# EAGLE library part FDBL86210-F085 (library FDBL86210-F085)
MOSFET N-Ch 150V 169A PowerTrench PSOF8 Source: Datasheet <https://www.onsemi.com/pub/Collateral/FDBL86210_F085-D.PDF>
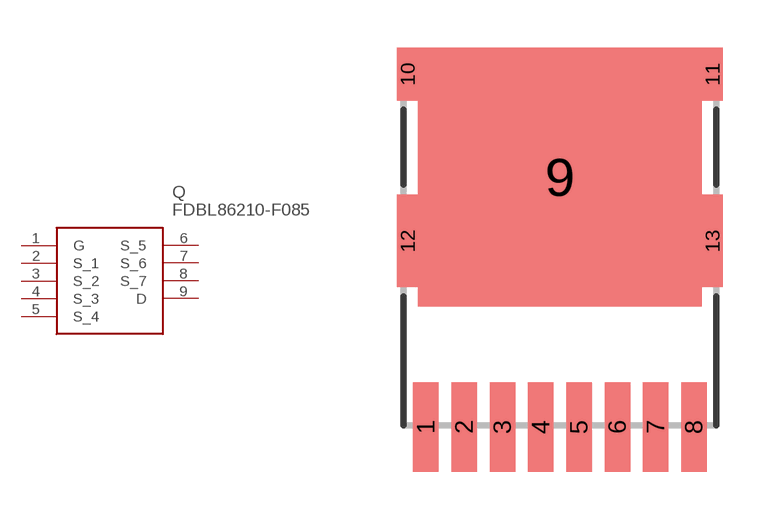
[diagram p0: symbol with the pads of H-PSOF8L-11.68X9.80_1; footprint H-PSOF8L-11.68X9.80_1]

Designator prefix Q

## FDBL86210-F085 (Arrow_Part_Number: FDBL86210-F085; Arrow_Price-Stock: https://www.arrow.com/en/products/fdbl86210-f085/on-semiconductor?region=nac; Description: MOSFET N-Ch 150V 169A PowerTrench PSOF8; Height: mm; Manufacturer_Name: onsemi; Manufacturer_Part_Number: FDBL86210-F085; Mouser_Part_Number: 512-FDBL86210_F085; Mouser_Price-Stock: https://www.mouser.co.uk/ProductDetail/onsemi-Fairchild/FDBL86210-F085?qs=0lQeLiL1qybvN4JdfMs10g%3D%3D)  [H-PSOF8L-11.68X9.80_1]
1  G
2  S_1
3  S_2
4  S_3
5  S_4
6  S_5
7  S_6
8  S_7
9  D

## Footprint H-PSOF8L-11.68X9.80_1 (pad centres in mm)
H−PSOF8L 11.68x9.80 CASE 100CU ISSUE O
smd 0.8 x 2.8: 1 -4.2,-5.24; 2 -3,-5.24; 3 -1.8,-5.24; 4 -0.6,-5.24; 5 0.6,-5.24; 6 1.8,-5.24; 7 3,-5.24; 8 4.2,-5.24
smd 8.9 x 8.1: 9 0,2.59
smd 0.65 x 1.65: 10 -4.775,5.815; 11 4.775,5.815
smd 0.65 x 2.9: 12 -4.775,0.59; 13 4.775,0.59